# EAGLE library part 62502022121 (library Wurth_Elektronik_Electromechanic_Wire_to_Board_Connectors_rev16a)
WR-BHD 2.00mm Male Angled Box Header With Lever, 20 Pins=>Code : Con_WTB_BHD_2.00_Male_THT_62502022121 <http://katalog.we-online.de/media/thumbs2/eican/thb_Con_WTB_BHD_2.00_Male_THT_6250xx22121_pf2.jpg> Details see: http://katalog.we-online.de/en/em/625_0xx_221_21 Created 2014-06-05, Karrer Zheng 2014 (C) Würth Elektronik
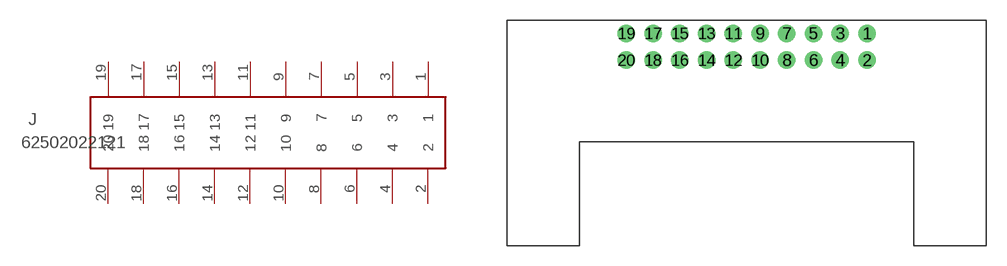
[diagram p228: symbol with the pads of 62502022121; footprint 62502022121]

Designator prefix J

## 62502022121  [62502022121]
1  1  pas
2  2  pas
3  3  pas
4  4  pas
5  5  pas
6  6  pas
7  7  pas
8  8  pas
9  9  pas
10  10  pas
11  11  pas
12  12  pas
13  13  pas
14  14  pas
15  15  pas
16  16  pas
17  17  pas
18  18  pas
19  19  pas
20  20  pas

## Footprint 62502022121 (pad centres in mm)
WR-BHD 2.00mm Male Angled Box Header With Lever, 20 pins
drill 0.8: 1 9,1; 2 9,-1; 3 7,1; 4 7,-1; 5 5,1; 6 5,-1; 7 3,1; 8 3,-1; 9 1,1; 10 1,-1; 11 -1,1; 12 -1,-1; 13 -3,1; 14 -3,-1; 15 -5,1; 16 -5,-1; 17 -7,1; 18 -7,-1; 19 -9,1; 20 -9,-1